# Altium footprint library hro_conn_usbc_type-c-31-m-12.PcbLib: 1 footprints
Each footprint in its own frame and in the unit in brackets; x right, y up, seen from the top. Pads: shape width x height; smd on the part's side, far side on the other; paste and mask are expansions set on the pad; w line width, h text height; cw(c..) or ccw(c..) is an arc to the next point about the centre after c.
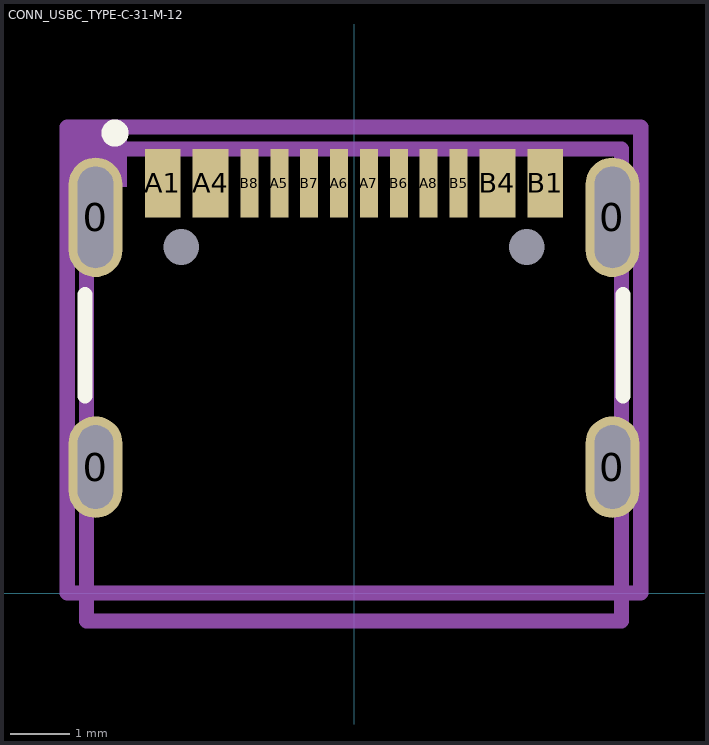
[diagram p0: the footprint, top view; thin cyan lines are the x and y axes]

## CONN_USBC_TYPE-C-31-M-12 [mm] "USB 2.0 12P USB-C connector"
height 3.26
pads (18):
  oval 0.9x1.7 hole 0.6 slot 1.4 at 90 deg: 0(-4.325,2.11) 0(4.325,2.11)
  oval 0.9x2 hole 0.6 slot 1.7 at 90 deg: 0(-4.325,6.29) 0(4.325,6.29)
  rect 0.6x1.14 smd: A1(-3.2,6.86) A4(-2.4,6.86) B1(3.2,6.86) B4(2.4,6.86)
  rect 0.3x1.14 smd: A5(-1.25,6.86) A6(-0.25,6.86) A7(0.25,6.86) A8(1.25,6.86) B5(1.75,6.86) B6(0.75,6.86) B7(-0.75,6.86) B8(-1.75,6.86)
  round 0 hole 0.6: GP(-2.89,5.79) GP(2.89,5.79)
Top Overlay:
  circle w0.254: c-4,7.7 r0.1
  lines w0.254: -4.5,3.3 -4.5,5 ; 4.5,3.3 4.5,5
Top 3D Body (Mech13):
  lines w0.254: -3,0 3,0 ; -4.475,-0.465 -4.475,7.435 4.475,7.435 4.475,-0.465 -4.475,-0.465
  text "PCB edge" at -1.873,0.294 h0.5
Top Courtyard:
  rectangle: -4.8,6.8 -3.8,7.8
  lines w0.254: -4.8,0 -4.8,7.8 4.8,7.8 4.8,0 -4.8,0
Top Designator:
  text ".Designator" at -1.974,-0.375 h2.03
3D body "HRO_TYPE-C-31-M-12.step": height 3.22, standoff -0.98, extent -4.475,-0.465 4.475,7.435